# Altium integrated library Atmel AT94K.IntLib: 2 symbols
Pins are listed as number, name and electrical type; pins without a type are passive.

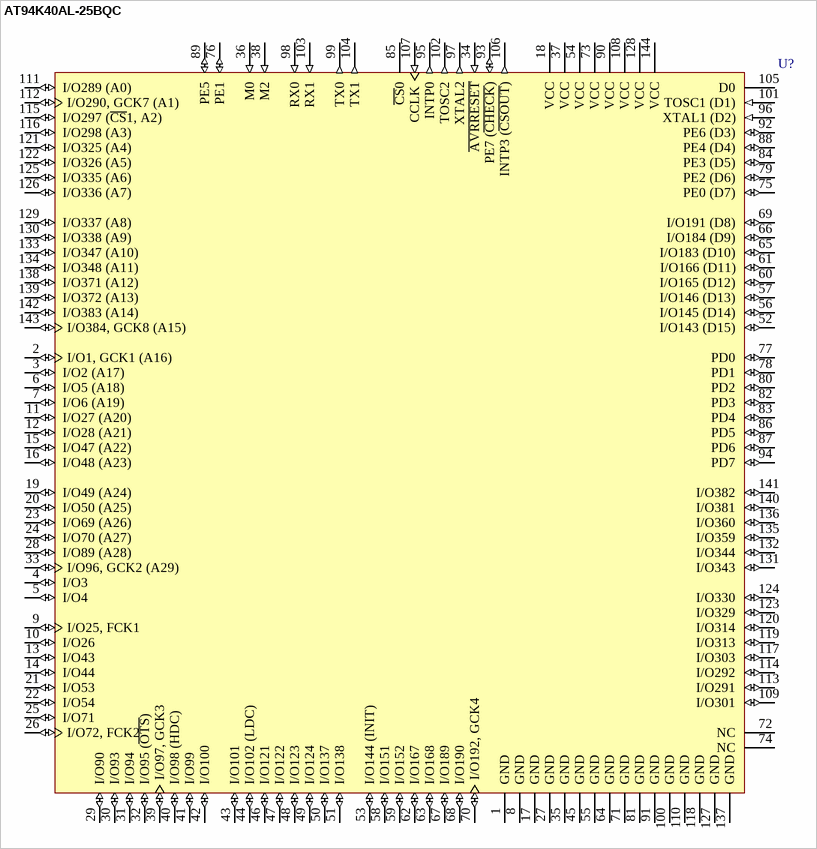
[diagram p0: symbol AT94K40AL-25BQC]

## AT94K40AL-25BQC
designator U?
Field Programmable System Level Integrated Circuit (FPSLIC); Published: 15-Apr-2002; LatestRevisionDate: 13-Apr-2006; LatestRevisionNote: IPC-7351 Footprint Added.; DatasheetVersion: Rev. 1138B-12/99; PackageVersion: rev.A, Nov-2001; PackageReference: 144L1; Publisher: Altium Limited; PackageDescription: 144-Pin Thin Quad Flat Pack 0.5 mm Pitch; Supplier 1: Digi-Key; Supplier Part Number 1: AT94K40AL-25BQC-ND; Supplier 2: Mouser; Supplier Part Number 2: 556-AT94K40AL-25BQC; Code_JEDEC: MS-026-BFB; ComponentLink1Description: Manufacturer Link; ComponentLink1URL: http://www.atmel.com/products/FPSLIC/; ComponentLink2Description: Datasheet; ComponentLink2URL: http://www.atmel.com/dyn/resources/prod_documents/doc1138.pdf; ComponentLink3Description: Atmel.com Home; ComponentLink3URL: http://www.atmel.com
footprint 144L1_N (Thin QFP, 144-Leads, Body 20x20mm, Pitch 0.5mm, IPC Medium Density)
footprint 144L1_L (Thin QFP, 144-Leads, Body 20x20mm, Pitch 0.5mm, IPC High Density)
footprint 144L1_M (Thin QFP, 144-Leads, Body 20x20mm, Pitch 0.5mm, IPC Low Density)
pins: 1 GND (power), 2 I/O1, GCK1 (A16) (io), 3 I/O2 (A17) (io), 4 I/O3 (io), 5 I/O4 (io), 6 I/O5 (A18) (io), 7 I/O6 (A19) (io), 8 GND (power), 9 I/O25, FCK1 (io), 10 I/O26 (io), 11 I/O27 (A20) (io), 12 I/O28 (A21) (io), 13 I/O43 (io), 14 I/O44 (io), 15 I/O47 (A22) (io), 16 I/O48 (A23) (io), 17 GND (power), 18 VCC (power), 19 I/O49 (A24) (io), 20 I/O50 (A25) (io), 21 I/O53 (io), 22 I/O54 (io), 23 I/O69 (A26) (io), 24 I/O70 (A27) (io), 25 I/O71 (io), 26 I/O72, FCK2 (io), 27 GND (power), 28 I/O89 (A28) (io), 29 I/O90 (io), 30 I/O93 (io), 31 I/O94 (io), 32 I/O95 (~{OTS}) (io), 33 I/O96, GCK2 (A29) (io), 34 ~{AVRRESET} (in), 35 GND (power), 36 M0 (in), 37 VCC (power), 38 M2 (in), 39 I/O97, GCK3 (io), 40 I/O98 (HDC) (io), 41 I/O99 (io), 42 I/O100 (io), 43 I/O101 (io), 44 I/O102 (LDC) (io), 45 GND (power), 46 I/O121 (io), 47 I/O122 (io), 48 I/O123 (io), 49 I/O124 (io), 50 I/O137 (io), 51 I/O138 (io), 52 I/O143 (D15) (io), 53 I/O144 (INIT) (io), 54 VCC (power), 55 GND (power), 56 I/O145 (D14) (io), 57 I/O146 (D13) (io), 58 I/O151 (io), 59 I/O152 (io), 60 I/O165 (D12) (io), 61 I/O166 (D11) (io), 62 I/O167 (io), 63 I/O168 (io), 64 GND (power), 65 I/O183 (D10) (io), 66 I/O184 (D9) (io), 67 I/O189 (io), 68 I/O190 (io), 69 I/O191 (D8) (io), 70 I/O192, GCK4 (io), 71 GND (power), 72 NC, 73 VCC (power), 74 NC, 75 PE0 (D7) (io), 76 PE1 (io), 77 PD0 (io), 78 PD1 (io), 79 PE2 (D6) (io), 80 PD2 (io), 81 GND (power), 82 PD3 (io), 83 PD4 (io), 84 PE3 (D5) (io), 85 ~{CS}0, 86 PD5 (io), 87 PD6 (io), 88 PE4 (D4) (io), 89 PE5 (io), 90 VCC (power), 91 GND (power), 92 PE6 (D3) (io), 93 PE7 (~{CHECK}) (io), 94 PD7 (io), 95 INTP0 (out), 96 XTAL1 (D2) (in), 97 XTAL2 (out), 98 RX0 (in), 99 TX0 (out), 100 GND (power), 101 TOSC1 (D1) (in), 102 TOSC2 (out), 103 RX1 (in), 104 TX1 (out), 105 D0, 106 INTP3 (~{CSOUT}) (out), 107 CCLK (in), 108 VCC (power), 109 I/O301 (io), 110 GND (power), 111 I/O289 (A0) (io), 112 I/O290, GCK7 (A1) (io), 113 I/O291 (io), 114 I/O292 (io), 115 I/O297 (~{CS}1, A2) (io), 116 I/O298 (A3) (io), 117 I/O303 (io), 118 GND (power), 119 I/O313 (io), 120 I/O314 (io), 121 I/O325 (A4) (io), 122 I/O326 (A5) (io), 123 I/O329 (io), 124 I/O330 (io), 125 I/O335 (A6) (io), 126 I/O336 (A7) (io), 127 GND (power), 128 VCC (power), 129 I/O337 (A8) (io), 130 I/O338 (A9) (io), 131 I/O343 (io), 132 I/O344 (io), 133 I/O347 (A10) (io), 134 I/O348 (A11) (io), 135 I/O359 (io), 136 I/O360 (io), 137 GND (power), 138 I/O371 (A12) (io), 139 I/O372 (A13) (io), 140 I/O381 (io), 141 I/O382 (io), 142 I/O383 (A14) (io), 143 I/O384, GCK8 (A15) (io), 144 VCC (power)

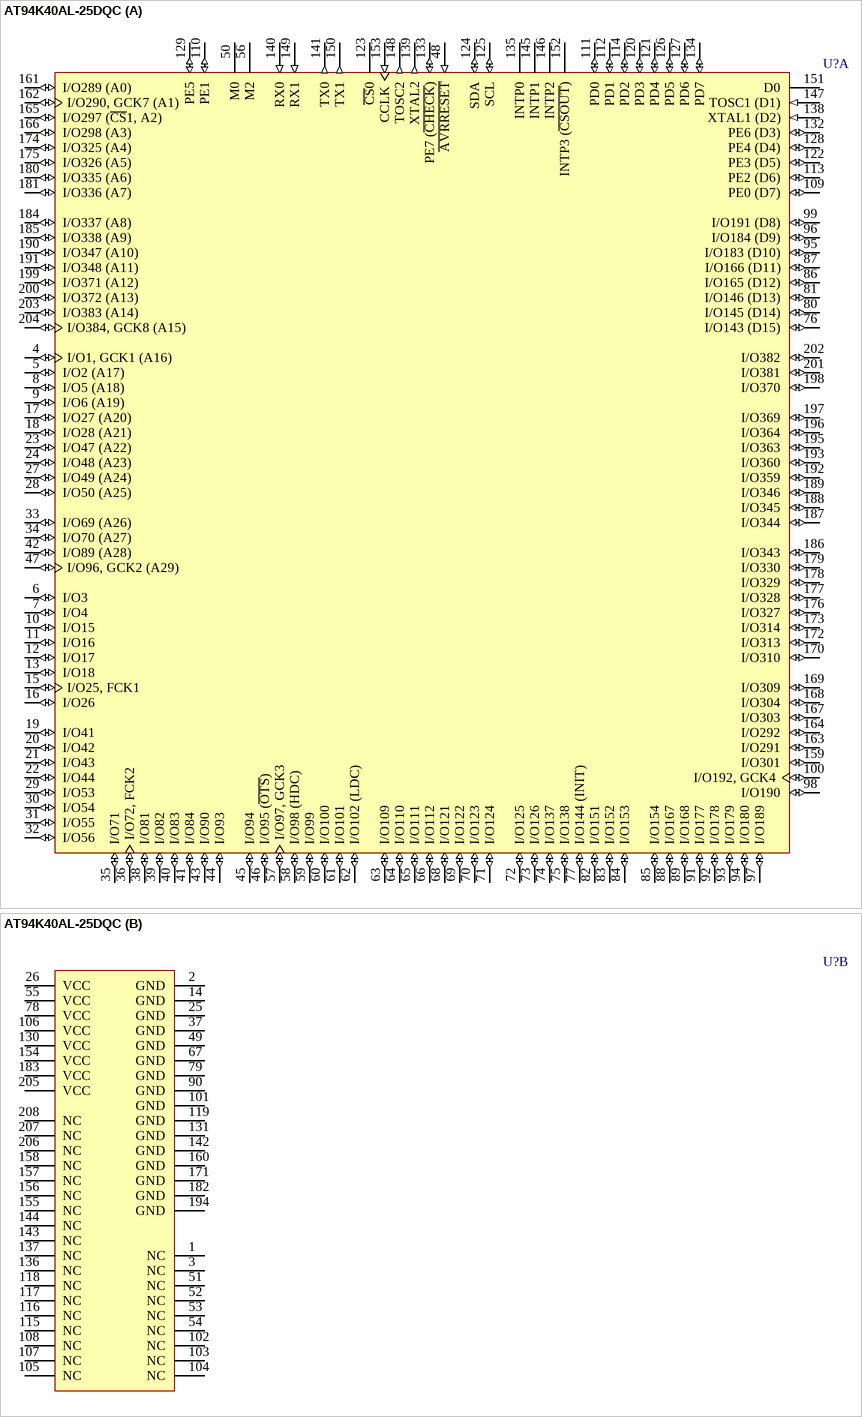
[diagram p1: symbol AT94K40AL-25DQC]

## AT94K40AL-25DQC
designator U?
Field Programmable System Level Integrated Circuit (FPSLIC); Published: 15-Apr-2002; LatestRevisionDate: 13-Apr-2006; LatestRevisionNote: IPC-7351 Footprint Added.; DatasheetVersion: Rev. 1138B-12/99; PackageVersion: Dec-1999; PackageReference: 208Q; Publisher: Altium Limited; PackageDescription: 208-Pin Plastic Gull Wing Quad Flat Package (PQFP); Supplier 1: Digi-Key; Supplier Part Number 1: AT94K40AL-25DQC-ND; Supplier 2: Mouser; Supplier Part Number 2: 556-AT94K40AL-25DQC; ComponentLink1Description: Manufacturer Link; ComponentLink1URL: http://www.atmel.com/products/FPSLIC/; ComponentLink2Description: Datasheet; ComponentLink2URL: http://www.atmel.com/dyn/resources/prod_documents/doc1138.pdf; ComponentLink3Description: Atmel.com Home; ComponentLink3URL: http://www.atmel.com
footprint 208Q_N (Shrink QFP, 208-Leads, Body 28x28mm, Pitch 0.5mm, IPC Medium Density)
footprint 208Q_L (Shrink QFP, 208-Leads, Body 28x28mm, Pitch 0.5mm, IPC High Density)
footprint 208Q_M (Shrink QFP, 208-Leads, Body 28x28mm, Pitch 0.5mm, IPC Low Density)
part A pins: 4 I/O1, GCK1 (A16) (io), 5 I/O2 (A17) (io), 6 I/O3 (io), 7 I/O4 (io), 8 I/O5 (A18) (io), 9 I/O6 (A19) (io), 10 I/O15 (io), 11 I/O16 (io), 12 I/O17 (io), 13 I/O18 (io), 15 I/O25, FCK1 (io), 16 I/O26 (io), 17 I/O27 (A20) (io), 18 I/O28 (A21) (io), 19 I/O41 (io), 20 I/O42 (io), 21 I/O43 (io), 22 I/O44 (io), 23 I/O47 (A22) (io), 24 I/O48 (A23) (io), 27 I/O49 (A24) (io), 28 I/O50 (A25) (io), 29 I/O53 (io), 30 I/O54 (io), 31 I/O55 (io), 32 I/O56 (io), 33 I/O69 (A26) (io), 34 I/O70 (A27) (io), 35 I/O71 (io), 36 I/O72, FCK2 (io), 38 I/O81 (io), 39 I/O82 (io), 40 I/O83 (io), 41 I/O84 (io), 42 I/O89 (A28) (io), 43 I/O90 (io), 44 I/O93 (io), 45 I/O94 (io), 46 I/O95 (~{OTS}) (io), 47 I/O96, GCK2 (A29) (io), 48 ~{AVRRESET} (in), 50 M0, 56 M2, 57 I/O97, GCK3 (io), 58 I/O98 (HDC) (io), 59 I/O99 (io), 60 I/O100 (io), 61 I/O101 (io), 62 I/O102 (LDC) (io), 63 I/O109 (io), 64 I/O110 (io), 65 I/O111 (io), 66 I/O112 (io), 68 I/O121 (io), 69 I/O122 (io), 70 I/O123 (io), 71 I/O124 (io), 72 I/O125 (io), 73 I/O126 (io), 74 I/O137 (io), 75 I/O138 (io), 76 I/O143 (D15) (io), 77 I/O144 (INIT) (io), 80 I/O145 (D14) (io), 81 I/O146 (D13) (io), 82 I/O151 (io), 83 I/O152 (io), 84 I/O153 (io), 85 I/O154 (io), 86 I/O165 (D12) (io), 87 I/O166 (D11) (io), 88 I/O167 (io), 89 I/O168 (io), 91 I/O177 (io), 92 I/O178 (io), 93 I/O179 (io), 94 I/O180 (io), 95 I/O183 (D10) (io), 96 I/O184 (D9) (io), 97 I/O189 (io), 98 I/O190 (io), 99 I/O191 (D8) (io), 100 I/O192, GCK4 (io), 109 PE0 (D7) (io), 110 PE1 (io), 111 PD0 (io), 112 PD1 (io), 113 PE2 (D6) (io), 114 PD2 (io), 120 PD3 (io), 121 PD4 (io), 122 PE3 (D5) (io), 123 ~{CS}0, 124 SDA (io), 125 SCL (io), 126 PD5 (io), 127 PD6 (io), 128 PE4 (D4) (io), 129 PE5 (io), 132 PE6 (D3) (io), 133 PE7 (~{CHECK}) (io), 134 PD7 (io), 135 INTP0, 138 XTAL1 (D2) (in), 139 XTAL2 (out), 140 RX0 (in), 141 TX0 (out), 145 INTP1, 146 INTP2, 147 TOSC1 (D1) (in), 148 TOSC2 (out), 149 RX1 (in), 150 TX1 (out), 151 D0, 152 INTP3 (~{CSOUT}), 153 CCLK (in), 159 I/O301 (io), 161 I/O289 (A0) (io), 162 I/O290, GCK7 (A1) (io), 163 I/O291 (io), 164 I/O292 (io), 165 I/O297 (~{CS}1, A2) (io), 166 I/O298 (A3) (io), 167 I/O303 (io), 168 I/O304 (io), 169 I/O309 (io), 170 I/O310 (io), 172 I/O313 (io), 173 I/O314 (io), 174 I/O325 (A4) (io), 175 I/O326 (A5) (io), 176 I/O327 (io), 177 I/O328 (io), 178 I/O329 (io), 179 I/O330 (io), 180 I/O335 (A6) (io), 181 I/O336 (A7) (io), 184 I/O337 (A8) (io), 185 I/O338 (A9) (io), 186 I/O343 (io), 187 I/O344 (io), 188 I/O345 (io), 189 I/O346 (io), 190 I/O347 (A10) (io), 191 I/O348 (A11) (io), 192 I/O359 (io), 193 I/O360 (io), 195 I/O363 (io), 196 I/O364 (io), 197 I/O369 (io), 198 I/O370 (io), 199 I/O371 (A12) (io), 200 I/O372 (A13) (io), 201 I/O381 (io), 202 I/O382 (io), 203 I/O383 (A14) (io), 204 I/O384, GCK8 (A15) (io)
part B pins: 1 NC, 2 GND (power), 3 NC, 14 GND (power), 25 GND (power), 26 VCC (power), 37 GND (power), 49 GND (power), 51 NC, 52 NC, 53 NC, 54 NC, 55 VCC (power), 67 GND (power), 78 VCC (power), 79 GND (power), 90 GND (power), 101 GND (power), 102 NC, 103 NC, 104 NC, 105 NC, 106 VCC (power), 107 NC, 108 NC, 115 NC, 116 NC, 117 NC, 118 NC, 119 GND (power), 130 VCC (power), 131 GND (power), 136 NC, 137 NC, 142 GND (power), 143 NC, 144 NC, 154 VCC (power), 155 NC, 156 NC, 157 NC, 158 NC, 160 GND (power), 171 GND (power), 182 GND (power), 183 VCC (power), 194 GND (power), 205 VCC (power), 206 NC, 207 NC, 208 NC